# Altium schematic symbol library DAC5672A.SchLib: 1 symbol
Pins are listed as number, name and electrical type; pins without a type are passive.

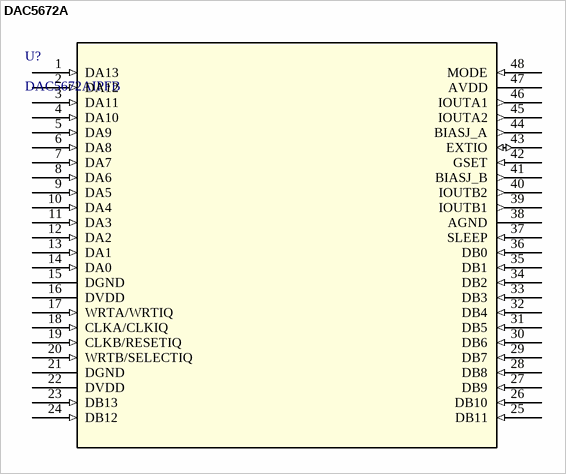
[diagram p0: symbol DAC5672A]

## DAC5672A
designator U?, comment DAC5672AIPFB
Dual-Channel, 14-Bit, 275-MSPS Digital-to-Analog Converter (DAC); Manufacturer: Texas Instruments; INDUSTRY_STD_PKG_TYPE: TQFP; FAMILY_NAME: HIGH SPEED DAC (>10MSPS); PIN_COUNT: 48; PACKAGE_DESIGNATOR: PFB; DESCRIPTION: 14 bit 275 MSPS Dual Digital to Analog Converter; Datasheet_URL: http://www.ti.com/lit/gpn/DAC5672A; GENERIC_PART_NUMBER: DAC5672A; Copyright: Copyright (C) 2018 Accelerated Designs. All rights reserved; RefDes: RefDes; Type: DEV; ComponentLink1Description: Product Page; ComponentLink1URL: https://www.ti.com/product/DAC5672A
footprint PFB48
pins: 1 DA13 (in), 2 DA12 (in), 3 DA11 (in), 4 DA10 (in), 5 DA9 (in), 6 DA8 (in), 7 DA7 (in), 8 DA6 (in), 9 DA5 (in), 10 DA4 (in), 11 DA3 (in), 12 DA2 (in), 13 DA1 (in), 14 DA0 (in), 15 DGND (power), 16 DVDD (power), 17 WRTA/WRTIQ (in), 18 CLKA/CLKIQ (in), 19 CLKB/RESETIQ (in), 20 WRTB/SELECTIQ (in), 21 DGND (power), 22 DVDD (power), 23 DB13 (in), 24 DB12 (in), 25 DB11 (in), 26 DB10 (in), 27 DB9 (in), 28 DB8 (in), 29 DB7 (in), 30 DB6 (in), 31 DB5 (in), 32 DB4 (in), 33 DB3 (in), 34 DB2 (in), 35 DB1 (in), 36 DB0 (in), 37 SLEEP (in), 38 AGND (power), 39 IOUTB1 (out), 40 IOUTB2 (out), 41 BIASJ_B (out), 42 GSET (in), 43 EXTIO (io), 44 BIASJ_A (out), 45 IOUTA2 (out), 46 IOUTA1 (out), 47 AVDD (power), 48 MODE (in)